# Altium footprint library Transformer_ETD_59_2.PcbLib: 1 footprints
Each footprint in its own frame and in the unit in brackets; x right, y up, seen from the top. Pads: shape width x height; smd on the part's side, far side on the other; paste and mask are expansions set on the pad; w line width, h text height; cw(c..) or ccw(c..) is an arc to the next point about the centre after c.
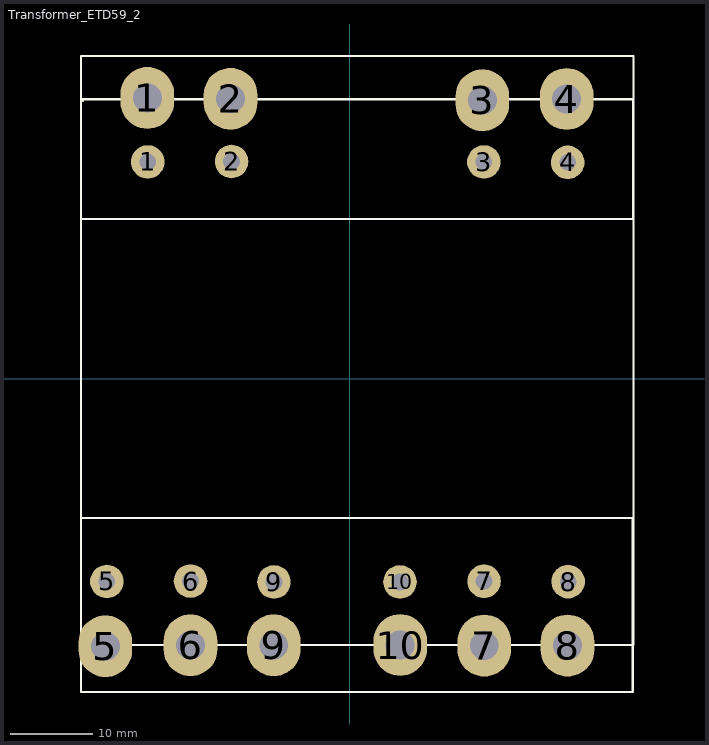
[diagram p0: the footprint, top view; thin cyan lines are the x and y axes]

## Transformer_ETD59_2 [mil]
pads (20):
  oval 255.91x295.28 hole 137.8: 1(-965,1340) 2(-568,1336) 3(633,1329) 4(1035,1335) 5(-1165,-1275) 6(-759,-1270) 7(642,-1272) 8(1039,-1272) 9(-362,-1270) 10(241,-1269)
  round 160 hole 80: 1(-963,1035) 2(-563,1037) 3(640,1035) 4(1040,1033) 5(-1158,-966) 6(-759,-964) 7(641,-965) 8(1042,-967) 9(-361,-968) 10(240,-968)
Top Overlay:
  lines w10: -1281,-1269 1354,-1269 1354,1541 -1281,1541 -1281,-1269 ; -1281,-1265 -1280,-1265 -1280,-1256 -1281,-1256 -1281,-1265 ; -1281,762 1352,762 1352,1334 -1281,1334 -1281,762 ; -1280.5,-1494 1350,-1494 1350,-664 -1280.5,-664 -1280.5,-1494 ; -1272,1325 -1272,1336 -1272,1325
3D body "ETD59.STEP": height 2023.61, standoff -72.71, extent -1277,-1269.16 1356.86,1333.16